# Altium footprint library LP735977JH.PcbLib: 1 footprints
Each footprint in its own frame and in the unit in brackets; x right, y up, seen from the top. Pads: shape width x height; smd on the part's side, far side on the other; paste and mask are expansions set on the pad; w line width, h text height; cw(c..) or ccw(c..) is an arc to the next point about the centre after c.

## LiPo Battery 5Ah [mm]
3D body: height 7.8, standoff 0, extent -0.057,0 59.563,78.5